# EAGLE library part MEM_EMMC_128G_KLMAG1JETD-B041 (library !GPLIB_ACTIVE)
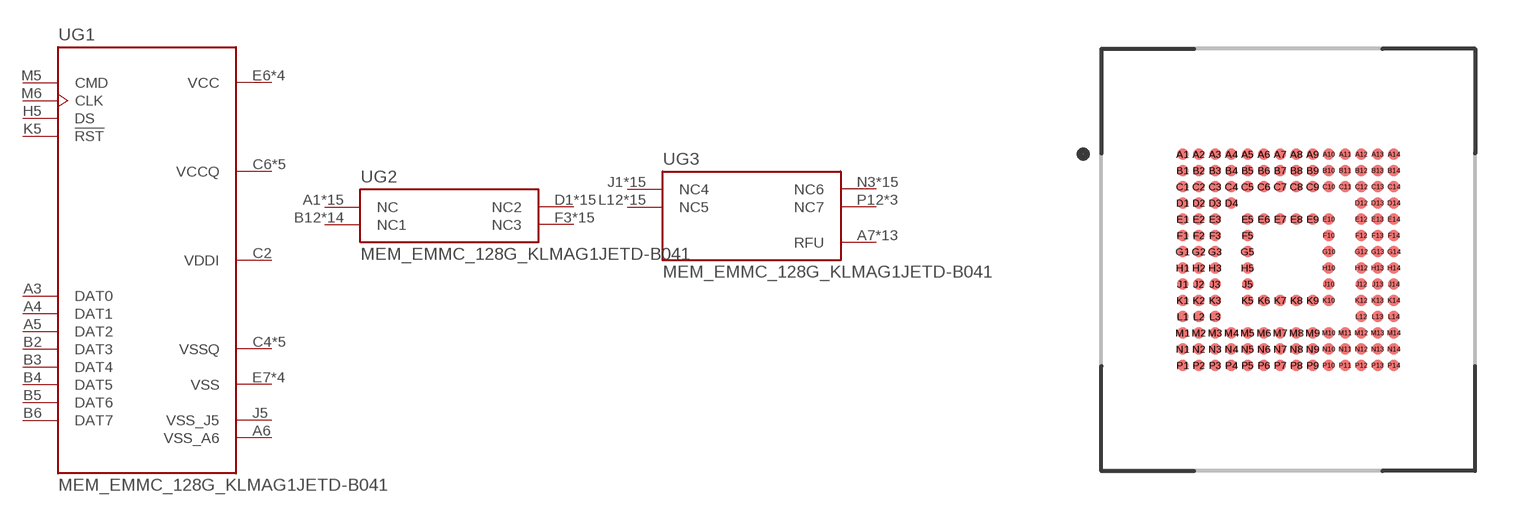
[diagram p102: symbol with the pads of BGA153N50P14X14_1150X1300X80; footprint BGA153N50P14X14_1150X1300X80]

Designator prefix U; gates G1=S40FC004C1B1I00000_SECTION1-1 G2=S40FC004C1B1I00000_SECTION2 G3=S40FC004C1B1I00000_SECTION3

## MEM_EMMC_128G_KLMAG1JETD-B041  [BGA153N50P14X14_1150X1300X80]
A1  G2:NC  nc
A2  G2:NC  nc
A3  G1:DAT0
A4  G1:DAT1
A5  G1:DAT2
A6  G1:VSS_A6  pwr
A7  G3:RFU  nc
A8  G2:NC  nc
A9  G2:NC  nc
A10  G2:NC  nc
A11  G2:NC  nc
A12  G2:NC  nc
A13  G2:NC  nc
A14  G2:NC  nc
B1  G2:NC  nc
B2  G1:DAT3
B3  G1:DAT4
B4  G1:DAT5
B5  G1:DAT6
B6  G1:DAT7
B7  G2:NC  nc
B8  G2:NC  nc
B9  G2:NC  nc
B10  G2:NC  nc
B11  G2:NC  nc
B12  G2:NC1  nc
B13  G2:NC1  nc
B14  G2:NC1  nc
C1  G2:NC1  nc
C2  G1:VDDI  pwr
C3  G2:NC1  nc
C4  G1:VSSQ  pwr
C5  G2:NC1  nc
C6  G1:VCCQ  pwr
C7  G2:NC1  nc
C8  G2:NC1  nc
C9  G2:NC1  nc
C10  G2:NC1  nc
C11  G2:NC1  nc
C12  G2:NC1  nc
C13  G2:NC1  nc
C14  G2:NC1  nc
D1  G2:NC2  nc
D2  G2:NC2  nc
D3  G2:NC2  nc
D4  G2:NC2  nc
D12  G2:NC2  nc
D13  G2:NC2  nc
D14  G2:NC2  nc
E1  G2:NC2  nc
E2  G2:NC2  nc
E3  G2:NC2  nc
E5  G3:RFU  nc
E6  G1:VCC  pwr
E7  G1:VSS  pwr
E8  G3:RFU  nc
E9  G3:RFU  nc
E10  G3:RFU  nc
E12  G2:NC2  nc
E13  G2:NC2  nc
E14  G2:NC2  nc
F1  G2:NC2  nc
F2  G2:NC2  nc
F3  G2:NC3  nc
F5  G1:VCC  pwr
F10  G3:RFU  nc
F12  G2:NC3  nc
F13  G2:NC3  nc
F14  G2:NC3  nc
G1  G2:NC3  nc
G2  G2:NC3  nc
G3  G3:RFU  nc
G5  G1:VSS  pwr
G10  G3:RFU  nc
G12  G2:NC3  nc
G13  G2:NC3  nc
G14  G2:NC3  nc
H1  G2:NC3  nc
H2  G2:NC3  nc
H3  G2:NC3  nc
H5  G1:DS  out
H10  G1:VSS  pwr
H12  G2:NC3  nc
H13  G2:NC3  nc
H14  G2:NC3  nc
J1  G3:NC4  nc
J2  G3:NC4  nc
J3  G3:NC4  nc
J5  G1:VSS_J5  pwr
J10  G1:VCC  pwr
J12  G3:NC4  nc
J13  G3:NC4  nc
J14  G3:NC4  nc
K1  G3:NC4  nc
K2  G3:NC4  nc
K3  G3:NC4  nc
K5  G1:!RST  in
K6  G3:RFU  nc
K7  G3:RFU  nc
K8  G1:VSS  pwr
K9  G1:VCC  pwr
K10  G3:RFU  nc
K12  G3:NC4  nc
K13  G3:NC4  nc
K14  G3:NC4  nc
L1  G3:NC4  nc
L2  G3:NC4  nc
L3  G3:NC4  nc
L12  G3:NC5  nc
L13  G3:NC5  nc
L14  G3:NC5  nc
M1  G3:NC5  nc
M2  G3:NC5  nc
M3  G3:NC5  nc
M4  G1:VCCQ  pwr
M5  G1:CMD
M6  G1:CLK  in
M7  G3:NC5  nc
M8  G3:NC5  nc
M9  G3:NC5  nc
M10  G3:NC5  nc
M11  G3:NC5  nc
M12  G3:NC5  nc
M13  G3:NC5  nc
M14  G3:NC5  nc
N1  G3:NC5  nc
N2  G1:VSSQ  pwr
N3  G3:NC6  nc
N4  G1:VCCQ  pwr
N5  G1:VSSQ  pwr
N6  G3:NC6  nc
N7  G3:NC6  nc
N8  G3:NC6  nc
N9  G3:NC6  nc
N10  G3:NC6  nc
N11  G3:NC6  nc
N12  G3:NC6  nc
N13  G3:NC6  nc
N14  G3:NC6  nc
P1  G3:NC6  nc
P2  G3:NC6  nc
P3  G1:VCCQ  pwr
P4  G1:VSSQ  pwr
P5  G1:VCCQ  pwr
P6  G1:VSSQ  pwr
P7  G3:RFU  nc
P8  G3:NC6  nc
P9  G3:NC6  nc
P10  G3:RFU  nc
P11  G3:NC6  nc
P12  G3:NC7  nc
P13  G3:NC7  nc
P14  G3:NC7  nc

## Footprint BGA153N50P14X14_1150X1300X80 (pad centres in mm)
smd 0.35 x 0.35: A1 -3.25,3.25; A2 -2.75,3.25; A3 -2.25,3.25; A4 -1.75,3.25; A5 -1.25,3.25; A6 -0.75,3.25; A7 -0.25,3.25; A8 0.25,3.25; A9 0.75,3.25; A10 1.25,3.25; A11 1.75,3.25; A12 2.25,3.25; A13 2.75,3.25; A14 3.25,3.25; B1 -3.25,2.75; B2 -2.75,2.75; B3 -2.25,2.75; B4 -1.75,2.75; B5 -1.25,2.75; B6 -0.75,2.75; B7 -0.25,2.75; B8 0.25,2.75; B9 0.75,2.75; B10 1.25,2.75; B11 1.75,2.75; B12 2.25,2.75; B13 2.75,2.75; B14 3.25,2.75; C1 -3.25,2.25; C2 -2.75,2.25; C3 -2.25,2.25; C4 -1.75,2.25; C5 -1.25,2.25; C6 -0.75,2.25; C7 -0.25,2.25; C8 0.25,2.25; C9 0.75,2.25; C10 1.25,2.25; C11 1.75,2.25; C12 2.25,2.25; C13 2.75,2.25; C14 3.25,2.25; D1 -3.25,1.75; D2 -2.75,1.75; D3 -2.25,1.75; D4 -1.75,1.75; D12 2.25,1.75; D13 2.75,1.75; D14 3.25,1.75; E1 -3.25,1.25; E2 -2.75,1.25; E3 -2.25,1.25; E5 -1.25,1.25; E6 -0.75,1.25; E7 -0.25,1.25; E8 0.25,1.25; E9 0.75,1.25; E10 1.25,1.25; E12 2.25,1.25; E13 2.75,1.25; E14 3.25,1.25; F1 -3.25,0.75; F2 -2.75,0.75; F3 -2.25,0.75; F5 -1.25,0.75; F10 1.25,0.75; F12 2.25,0.75; F13 2.75,0.75; F14 3.25,0.75; G1 -3.25,0.25; G2 -2.75,0.25; G3 -2.25,0.25; G5 -1.25,0.25; G10 1.25,0.25; G12 2.25,0.25; G13 2.75,0.25; G14 3.25,0.25; H1 -3.25,-0.25; H2 -2.75,-0.25; H3 -2.25,-0.25; H5 -1.25,-0.25; H10 1.25,-0.25; H12 2.25,-0.25; H13 2.75,-0.25; H14 3.25,-0.25; J1 -3.25,-0.75; J2 -2.75,-0.75; J3 -2.25,-0.75; J5 -1.25,-0.75; J10 1.25,-0.75; J12 2.25,-0.75; J13 2.75,-0.75; J14 3.25,-0.75; K1 -3.25,-1.25; K2 -2.75,-1.25; K3 -2.25,-1.25; K5 -1.25,-1.25; K6 -0.75,-1.25; K7 -0.25,-1.25; K8 0.25,-1.25; K9 0.75,-1.25; K10 1.25,-1.25; K12 2.25,-1.25; K13 2.75,-1.25; K14 3.25,-1.25; L1 -3.25,-1.75; L2 -2.75,-1.75; L3 -2.25,-1.75; L12 2.25,-1.75; L13 2.75,-1.75; L14 3.25,-1.75; M1 -3.25,-2.25; M2 -2.75,-2.25; M3 -2.25,-2.25; M4 -1.75,-2.25; M5 -1.25,-2.25; M6 -0.75,-2.25; M7 -0.25,-2.25; M8 0.25,-2.25; M9 0.75,-2.25; M10 1.25,-2.25; M11 1.75,-2.25; M12 2.25,-2.25; M13 2.75,-2.25; M14 3.25,-2.25; N1 -3.25,-2.75; N2 -2.75,-2.75; N3 -2.25,-2.75; N4 -1.75,-2.75; N5 -1.25,-2.75; N6 -0.75,-2.75; N7 -0.25,-2.75; N8 0.25,-2.75; N9 0.75,-2.75; N10 1.25,-2.75; N11 1.75,-2.75; N12 2.25,-2.75; N13 2.75,-2.75; N14 3.25,-2.75; P1 -3.25,-3.25; P2 -2.75,-3.25; P3 -2.25,-3.25; P4 -1.75,-3.25; P5 -1.25,-3.25; P6 -0.75,-3.25; P7 -0.25,-3.25; P8 0.25,-3.25; P9 0.75,-3.25; P10 1.25,-3.25; P11 1.75,-3.25; P12 2.25,-3.25; P13 2.75,-3.25; P14 3.25,-3.25